# Altium footprint library INDM1150X1030X400L260X300N.PcbLib: 2 footprints
Each footprint in its own frame and in the unit in brackets; x right, y up, seen from the top. Pads: shape width x height; smd on the part's side, far side on the other; paste and mask are expansions set on the pad; w line width, h text height; cw(c..) or ccw(c..) is an arc to the next point about the centre after c.
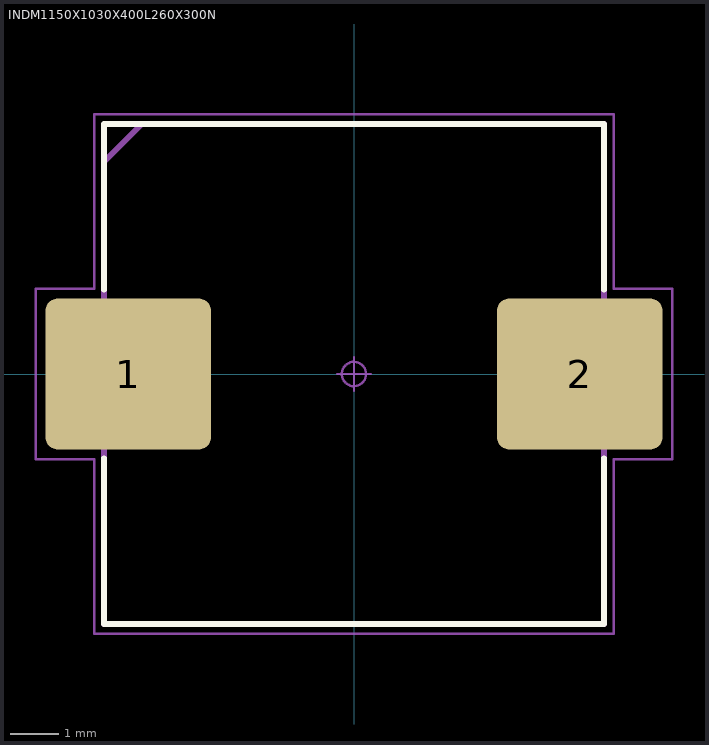
[diagram p0: the footprints below, top view; thin cyan lines are the x and y axes]

## INDM1150X1030X400L260X300N [mm] "Inductor, Molded Body; 10.30 mm L X 10.30 mm W X 4.00 mm H body"
height 4
pads (2):
  rrect16% 3.41x3.11 smd: 1(-4.65,0) 2(4.65,0)
Top Overlay:
  lines w0.12: -5.15,-1.735 -5.15,-5.15 5.15,-5.15 5.15,-1.735 ; -5.15,1.735 -5.15,5.15 5.15,5.15 5.15,1.735
Mechanical 3:
  lines w0.12: -5.15,-5.15 5.15,-5.15 5.15,5.15 -4.375,5.15 -5.15,4.375 -5.15,-5.15
Mechanical 5:
  lines w0.025: -5.75,-1.5 -5.75,1.5 -3.15,1.5 -3.15,-1.5 -5.75,-1.5 ; -5.15,-5.15 5.15,-5.15 5.15,5.15 -5.15,5.15 -5.15,-5.15 ; 3.15,-1.5 5.75,-1.5 5.75,1.5 3.15,1.5 3.15,-1.5
Mechanical 7:
  circle w0.05: c0,0 r0.25
  lines w0.05: -0.35,0 0.35,0 ; 0,-0.35 0,0.35 ; -6.555,-1.755 -5.35,-1.755 -5.35,-5.35 5.35,-5.35 5.35,-1.755 6.555,-1.755 6.555,1.755 5.35,1.755 5.35,5.35 -5.35,5.35 -5.35,1.755 -6.555,1.755 -6.555,-1.755
Mechanical 9:
  text "'.Designator'" at -5.588,-0.381 h1
3D body "INDM1150X1030X400L260X300.STEP": height 4, standoff 0, extent -5.75,-5.15 5.75,5.15
3D body: height 1.25, standoff 0, extent -6.555,-5.35 6.555,5.35

## PCBComponent_1 [mm]